# Altium integrated library 282836-2.IntLib: 1 symbol
Pins are listed as number, name and electrical type; pins without a type are passive.

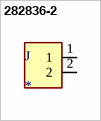
[diagram p0: symbol 282836-2]

## 282836-2
designator J
Connector, Terminal Block; Wire Receptacle; 2 Pos.; 16-30 AWG; 0.197 in. CL; Sid; MP: 282836-2; Centerline_Pitch: 5 mm[.197 in]; MF: TE Connectivity; Number_of_Positions: 2; Availability: Unavailable; EU_RoHS_Compliance: Compliant with Exemptions; Package: None; Value: *; TE_purchase_URL: https://www.te.com/usa-en/product-282836-2.html?te_bu=Cor&te_type=disp&te_campaign=seda_glo_cor-seda-global-disp-prtnr-fy19-seda-model-bom-cta_sma-317_1&elqCampaignId=32493; Price: None; SnapEDA_Link: https://www.snapeda.com/parts/282836-2/TE%20Connectivity%20AMP%20Connectors/view-part/492233/?ref=snap
footprint CONN_282836-2
pins: 1, 2